# Altium footprint library VCU_V2_PCB.PcbLib: 22 footprints (part 1 of 2)
Each footprint in its own frame and in the unit in brackets; x right, y up, seen from the top. Pads: shape width x height; smd on the part's side, far side on the other; paste and mask are expansions set on the pad; w line width, h text height; cw(c..) or ccw(c..) is an arc to the next point about the centre after c.
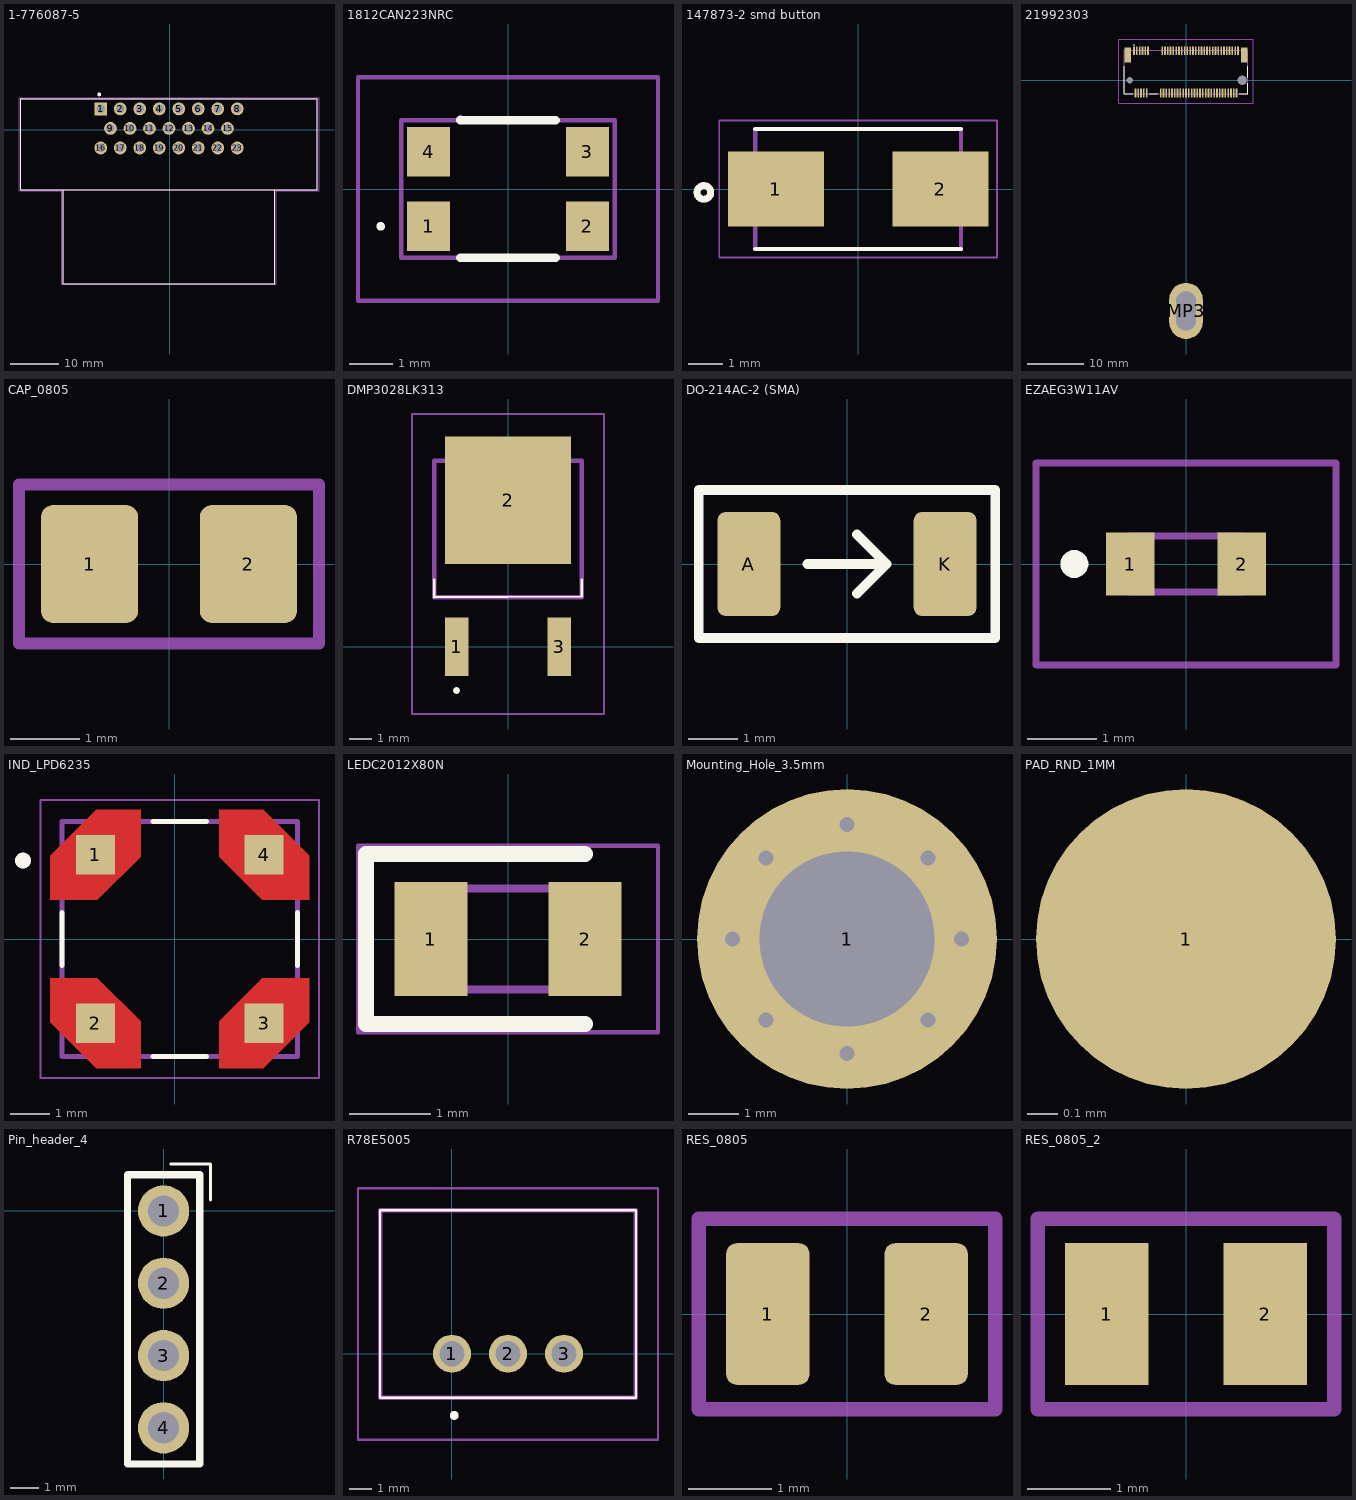
[diagram p0: the footprints below, top view; thin cyan lines are the x and y axes]

## 1-776087-5 [mm] "CONN HDR 23POS R/A W/GASKET AU"
pads (23):
  rect 2.625x2.625 hole 1.75: 1(-14.127,4.254)
  round 2.625 hole 1.75: 2(-10.127,4.254) 3(-6.127,4.254) 4(-2.127,4.254) 5(1.873,4.254) 6(5.873,4.254) 7(9.873,4.254) 8(13.873,4.254) 9(-12.127,0.254) 10(-8.127,0.254) 11(-4.127,0.254) 12(-0.127,0.254) 13(3.873,0.254) 14(7.873,0.254) 15(11.873,0.254) 16(-14.127,-3.746) 17(-10.127,-3.746) 18(-6.127,-3.746) 19(-2.127,-3.746) 20(1.873,-3.746) 21(5.873,-3.746) 22(9.873,-3.746) 23(13.873,-3.746)
Top Overlay:
  circle w0.4: c-14.427,7.204 r0.2
  lines w0.127: -21.827,-12.296 21.573,-12.296 ; -21.827,-12.296 -30.527,-12.296 -30.527,6.304 30.273,6.304 30.273,-12.296 21.573,-12.296 ; -21.827,-12.296 -21.827,-31.596 21.573,-31.596 21.573,-12.296
Mechanical 13:
  circle w0.4: c-14.177,4.204 r0.2
  lines w0.127: -21.827,-12.296 21.573,-12.296 ; -21.827,-12.296 -30.527,-12.296 -30.527,6.304 30.273,6.304 30.273,-12.296 21.573,-12.296 ; -21.827,-12.296 -21.827,-31.596 21.573,-31.596 21.573,-12.296
  text "NAME" at -30.542,6.857 h1.78
  text "VALUE" at -22.052,-33.984 h1.78
Mechanical 15:
  lines w0.05: -30.877,-12.496 -22.127,-12.496 -22.127,-31.746 21.873,-31.746 21.873,-12.496 30.623,-12.496 30.623,6.504 -30.877,6.504 -30.877,-12.496
3D body "1-776087-5.stp": height 29.05, standoff -3.05, extent -30.527,-31.577 30.273,6.223

## 1812CAN223NRC [mm]
pads (4):
  rect 1x1.15 smd: 1(-1.84,-0.865) 2(1.84,-0.865) 3(1.84,0.865) 4(-1.84,0.865)
Top Overlay:
  lines w0.1: -3,-0.865 cw(c-2.95,-0.865) -2.9,-0.865 cw(c-2.95,-0.865) -3,-0.865
  lines w0.2: -1.1,-1.59 1.1,-1.59 ; -1.1,1.6 1.1,1.59
Mechanical 13:
  lines w0.1: -2.475,-1.59 2.475,-1.59 2.475,1.59 -2.475,1.59 -2.475,-1.59
Mechanical 15:
  lines w0.1: -3.475,-2.59 3.475,-2.59 3.475,2.59 -3.475,2.59 -3.475,-2.59
3D body "1812CAN-223NRC.stp": height 3.1, standoff 0, extent -2.475,-1.59 2.475,1.59

## 147873-2 smd button [mm]
pads (2):
  rect 2.8x2.2 smd: 1(-2.4,0) 2(2.4,0)
Top Overlay:
  circle w0.2: c-4.5,-0.1 r0.2
  lines w0.127: -3,-1.75 3,-1.75 ; -3,1.75 3,1.75
Mechanical 13:
  circle w0.2: c-4.5,-0.1 r0.2
  lines w0.127: -3,-1.75 -3,1.75 3,1.75 3,-1.75 -3,-1.75
Mechanical 15:
  lines w0.05: -4.05,-2 4.05,-2 4.05,2 -4.05,2 -4.05,-2

## 21992303 [mm]
pads (72):
  rect 0.3x1.55 smd: 1(-9.25,5.275) 2(-9,-2.275) 3(-8.75,5.275) 4(-8.5,-2.275) 5(-8.25,5.275) 6(-8,-2.275) 7(-7.75,5.275) 8(-7.5,-2.275) 9(-7.25,5.275) 10(-7,-2.275) 11(-6.75,5.275) 20(-4.5,-2.275) 21(-4.25,5.275) 22(-4,-2.275) 23(-3.75,5.275) 24(-3.5,-2.275) 25(-3.25,5.275) 26(-3,-2.275) 27(-2.75,5.275) 28(-2.5,-2.275) 29(-2.25,5.275) 30(-2,-2.275) 31(-1.75,5.275) 32(-1.5,-2.275) 33(-1.25,5.275) 34(-1,-2.275) 35(-0.75,5.275) 36(-0.5,-2.275) 37(-0.25,5.275) 38(0,-2.275) 39(0.25,5.275) 40(0.5,-2.275) 41(0.75,5.275) 42(1,-2.275) 43(1.25,5.275) 44(1.5,-2.275) 45(1.75,5.275) 46(2,-2.275) 47(2.25,5.275) 48(2.5,-2.275) 49(2.75,5.275) 50(3,-2.275) 51(3.25,5.275) 52(3.5,-2.275) 53(3.75,5.275) 54(4,-2.275) 55(4.25,5.275) 56(4.5,-2.275) 57(4.75,5.275) 58(5,-2.275) 59(5.25,5.275) 60(5.5,-2.275) 61(5.75,5.275) 62(6,-2.275) 63(6.25,5.275) 64(6.5,-2.275) 65(6.75,5.275) 66(7,-2.275) 67(7.25,5.275) 68(7.5,-2.275) 69(7.75,5.275) 70(8,-2.275) 71(8.25,5.275) 72(8.5,-2.275) 73(8.75,5.275) 74(9,-2.275) 75(9.25,5.275)
  round 0.575 hole 1.15 unplated: MH1(-10,0)
  round 0.825 hole 1.65 unplated: MH2(10,0)
  rect 1.2x2.75 smd: MP1(-10.35,4.5) MP2(10.35,4.5)
  oval 6x10 hole 3.5 slot 7 at 90 deg: MP3(0,-41.021)
Top Overlay:
  lines w0.1: -10.95,2.5 -10.95,-2.375 -9.5,-2.375 ; -6.5,-2.375 -5,-2.375 ; 9.5,-2.375 10.95,-2.375 10.95,-0.5 ; 10.95,0.5 10.95,2.5 ; -9.3,6.3 ccw(c-9.25,6.3) -9.2,6.3 ccw(c-9.25,6.3) -9.3,6.3
Mechanical 13:
  lines w0.2: -10.95,-2.375 -10.95,5.375 10.95,5.375 10.95,-2.375 -10.95,-2.375
Mechanical 15:
  lines w0.1: -11.95,-4.05 -11.95,7.35 11.95,7.35 11.95,-4.05 -11.95,-4.05
3D body "NVME_pic32.step": height 11.61, standoff 0.01, extent -11.129,-43.438 12.145,2.54
3D body "2199230-3.stp": height 4.08, standoff -0.63, extent -10.95,-2.82 10.95,5.88

## CAP_0805 [mm]
pads (2):
  rrect25% 1.4x1.7 smd: 1(-1.143,0) 2(1.143,0)
Mechanical 13:
  lines w0.175: -2.159,-1.143 -2.159,1.143 2.159,1.143 2.159,-1.143 -2.159,-1.143
  text "'.Designator'" at -5.665,-0.417 h1
3D body "C0805.stp": height 1.01, standoff 0.01, extent -1.15,-0.762 1.15,0.788

## DMP3028LK313 [mm]
pads (3):
  rect 1.06x2.6 smd: 1(-2.286,0) 3(2.286,0)
  rect 5.632x5.7 smd: 2(0,6.55)
Top Overlay:
  lines w0.1: -3.29,3 -3.29,2.22 3.29,2.25 3.29,3
  lines w0.2: -2.3,-2 cw(c-2.3,-1.95) -2.3,-1.9 ; -2.3,-2 ccw(c-2.3,-1.95) -2.3,-1.9 ; -2.3,-2 ccw(c-2.3,-1.95) -2.3,-1.9
Mechanical 13:
  lines w0.2: -3.29,2.22 -3.29,8.32 3.29,8.32 3.29,2.22 -3.29,2.22
Mechanical 15:
  lines w0.1: -4.29,-3 -4.29,10.4 4.29,10.4 4.29,-3 -4.29,-3
3D body "DMP3028LK3-13.stp": height 2.49, standoff 0, extent -3.29,-1.194 3.29,8.837

## DO-214AC-2 (SMA) [mm]
pads (2):
  rrect25% 1.27x2.1 smd: A(-1.985,0) K(1.985,0)
Top Overlay:
  lines w0.2: -0.8,0 0.8,0 ; 0.2,-0.6 0.8,0 ; 0.2,0.6 0.8,0 ; 0.8,0 0.8,0 ; -3,-1.5 3,-1.5 3,1.5 -3,1.5 -3,-1.5
Mechanical 13:
  text "'.Designator'" at -5.84,-0.925 h1
3D body "DO-214AC_SMA.step": height 2.42, standoff 0.01, extent -2.6,-1.3 2.6,1.3

## EZAEG3W11AV [mm]
pads (2):
  rect 0.7x0.9 smd: 1(-0.8,0) 2(0.8,0)
Top Overlay:
  lines w0.2: -1.6,-0.1 cw(c-1.6,0) -1.6,0.1 cw(c-1.6,0) -1.6,-0.1
Mechanical 13:
  lines w0.1: -0.8,-0.4 0.8,-0.4 0.8,0.4 -0.8,0.4 -0.8,-0.4
Mechanical 15:
  lines w0.1: -2.15,-1.45 2.15,-1.45 2.15,1.45 -2.15,1.45 -2.15,-1.45
3D body "EZA-EG3W11AV.stp": height 0.6, standoff 0, extent -0.8,-0.4 0.8,0.4

## IND_LPD6235 [mm]
pads (4):
  rect 1x1 smd paste-1 mask+0: 1(-2.023,2.15) 2(-2.023,-2.15) 3(2.277,-2.15) 4(2.277,2.15)
Top Layer:
  region: -0.873,2.1 -1.973,1 -3.173,1 -3.173,2.125 -1.998,3.3 -0.873,3.3
  region: 3.427,-2.125 2.252,-3.3 1.127,-3.3 1.127,-2.1 2.227,-1 3.427,-1
  region: -0.873,-2.1 -0.873,-3.3 -1.998,-3.3 -3.173,-2.125 -3.173,-1 -1.973,-1
  region: 3.427,2.125 3.427,1 2.227,1 1.127,2.1 1.127,3.3 2.252,3.3
Top Overlay:
  circle w0.2: c-3.873,2 r0.1
  lines w0.127: -2.873,-0.68 -2.873,0.68 ; -0.553,-3 0.807,-3 ; -0.553,3 0.807,3 ; 3.127,-0.68 3.127,0.68
Top Paste:
  region: -0.873,2.1 -1.973,1 -3.173,1 -3.173,2.125 -1.998,3.3 -0.873,3.3
  region: 3.427,-2.125 2.252,-3.3 1.127,-3.3 1.127,-2.1 2.227,-1 3.427,-1
  region: -0.873,-2.1 -0.873,-3.3 -1.998,-3.3 -3.173,-2.125 -3.173,-1 -1.973,-1
  region: 3.427,2.125 3.427,1 2.227,1 1.127,2.1 1.127,3.3 2.252,3.3
Top Solder:
  region: -0.773,2.059 -1.932,0.9 -3.273,0.9 -3.273,2.166 -2.039,3.4 -0.773,3.4
  region: 3.527,-2.166 2.293,-3.4 1.027,-3.4 1.027,-2.059 2.186,-0.9 3.527,-0.9
  region: -0.773,-2.059 -0.773,-3.4 -2.039,-3.4 -3.273,-2.166 -3.273,-0.9 -1.932,-0.9
  region: 3.527,2.166 3.527,0.9 2.186,0.9 1.027,2.059 1.027,3.4 2.293,3.4
Mechanical 13:
  circle w0.2: c-3.873,2 r0.1
  lines w0.127: -2.873,-3 3.127,-3 3.127,3 -2.873,3 -2.873,-3
Mechanical 15:
  lines w0.05: -3.423,-3.55 3.677,-3.55 3.677,3.55 -3.423,3.55 -3.423,-3.55
3D body "step_temp.STEP": height 3.5, standoff 0, extent -2.873,-3 3.127,3

## LEDC2012X80N [mm]
pads (2):
  rect 0.9x1.4 smd: 1(-0.95,0) 2(0.95,0)
Top Overlay:
  lines w0.2: 0.95,-1.05 -1.75,-1.05 -1.75,1.05 0.95,1.05
Mechanical 13:
  lines w0.1: -1,0.208 -0.583,0.625 ; -1,-0.625 -1,0.625 1,0.625 1,-0.625 -1,-0.625
Mechanical 15:
  lines w0.05: -1.85,-1.15 -1.85,1.15 1.85,1.15 1.85,-1.15 -1.85,-1.15
3D body "150080BS75000.stp": height 0.7, standoff 0, extent -1.03,-0.625 0.97,0.625

## Mounting_Hole_3.5mm [mm]
pads (1):
  round 6 hole 3.5: 1(0,0)
via 1.616,1.616 diameter 0.5 hole 0.3
via 2.286,0 diameter 0.5 hole 0.3
via 1.616,-1.616 diameter 0.5 hole 0.3
via 0,-2.286 diameter 0.5 hole 0.3
via -1.616,-1.616 diameter 0.5 hole 0.3
via -2.286,0 diameter 0.5 hole 0.3
via -1.616,1.616 diameter 0.5 hole 0.3
via 0,2.286 diameter 0.5 hole 0.3

## PAD_RND_1MM [mm]
pads (1):
  round 1 smd paste-0.5 mask+0: 1(0,0)

## Pin_header_4 [mm]
pads (4):
  round 1.8 hole 1.1 mask+0.07: 1(0,0) 2(0,-2.54) 3(0,-5.08) 4(0,-7.62)
Top Overlay:
  lines w0.1: 0.254,1.651 1.651,1.651 1.651,0.381
  lines w0.254: -1.27,-8.89 1.27,-8.89 1.27,1.27 -1.27,1.27 -1.27,-8.89

## R78E5005 [mm]
pads (3):
  round 1.725 hole 1.15: 1(0,0) 2(2.54,0) 3(5.08,0)
Top Overlay:
  lines w0.1: -3.26,-2 -3.26,6.5 8.34,6.5 8.34,-2 -3.26,-2
  lines w0.2: 0,-2.8 cw(c0.1,-2.8) 0.2,-2.8 cw(c0.1,-2.8) 0,-2.8
Mechanical 13:
  lines w0.2: -3.26,-2 8.34,-2 8.34,6.5 -3.26,6.5 -3.26,-2
Mechanical 15:
  lines w0.1: -4.26,-3.9 9.34,-3.9 ; -4.26,-3.9 -4.26,7.5 ; -4.26,-3.9 9.34,-3.9 ; -4.26,-3.9 -4.26,7.5 ; -4.26,7.5 9.34,7.5 ; -4.26,7.5 9.34,7.5 ; 9.34,-3.9 9.34,7.5 ; 9.34,-3.9 9.34,7.5
3D body "R-78E5.0-0.5.stp": height 10.86, standoff -3.64, extent -3.345,-1.969 8.255,6.541

## RES_0805 [mm]
pads (2):
  rrect25% 1x1.7 smd: 1(-0.95,0) 2(0.95,0)
Mechanical 13:
  lines w0.175: -1.778,-1.143 -1.778,1.143 1.778,1.143 1.778,-1.143 -1.778,-1.143
  text "'.Designator'" at -5.665,-0.417 h1
3D body "R0805.step": height 0.47, standoff 0.01, extent -1,-0.63 1,0.63

## RES_0805_2 [mm]
pads (2):
  rect 1x1.7 smd: 1(-0.95,0) 2(0.95,0)
Mechanical 13:
  lines w0.175: -1.778,-1.143 1.778,-1.143 1.778,1.143 -1.778,1.143 -1.778,-1.143
  text "'.Designator'" at -5.665,-0.417 h1
3D body "R0805.step": height 0.47, standoff 0.01, extent -1,-0.63 1,0.63